# Altium footprint library con-neutrik_ag.PCBLIB: 78 footprints (part 4 of 5)
Each footprint in its own frame and in the unit in brackets; x right, y up, seen from the top. Pads: shape width x height; smd on the part's side, far side on the other; paste and mask are expansions set on the pad; w line width, h text height; cw(c..) or ccw(c..) is an arc to the next point about the centre after c.
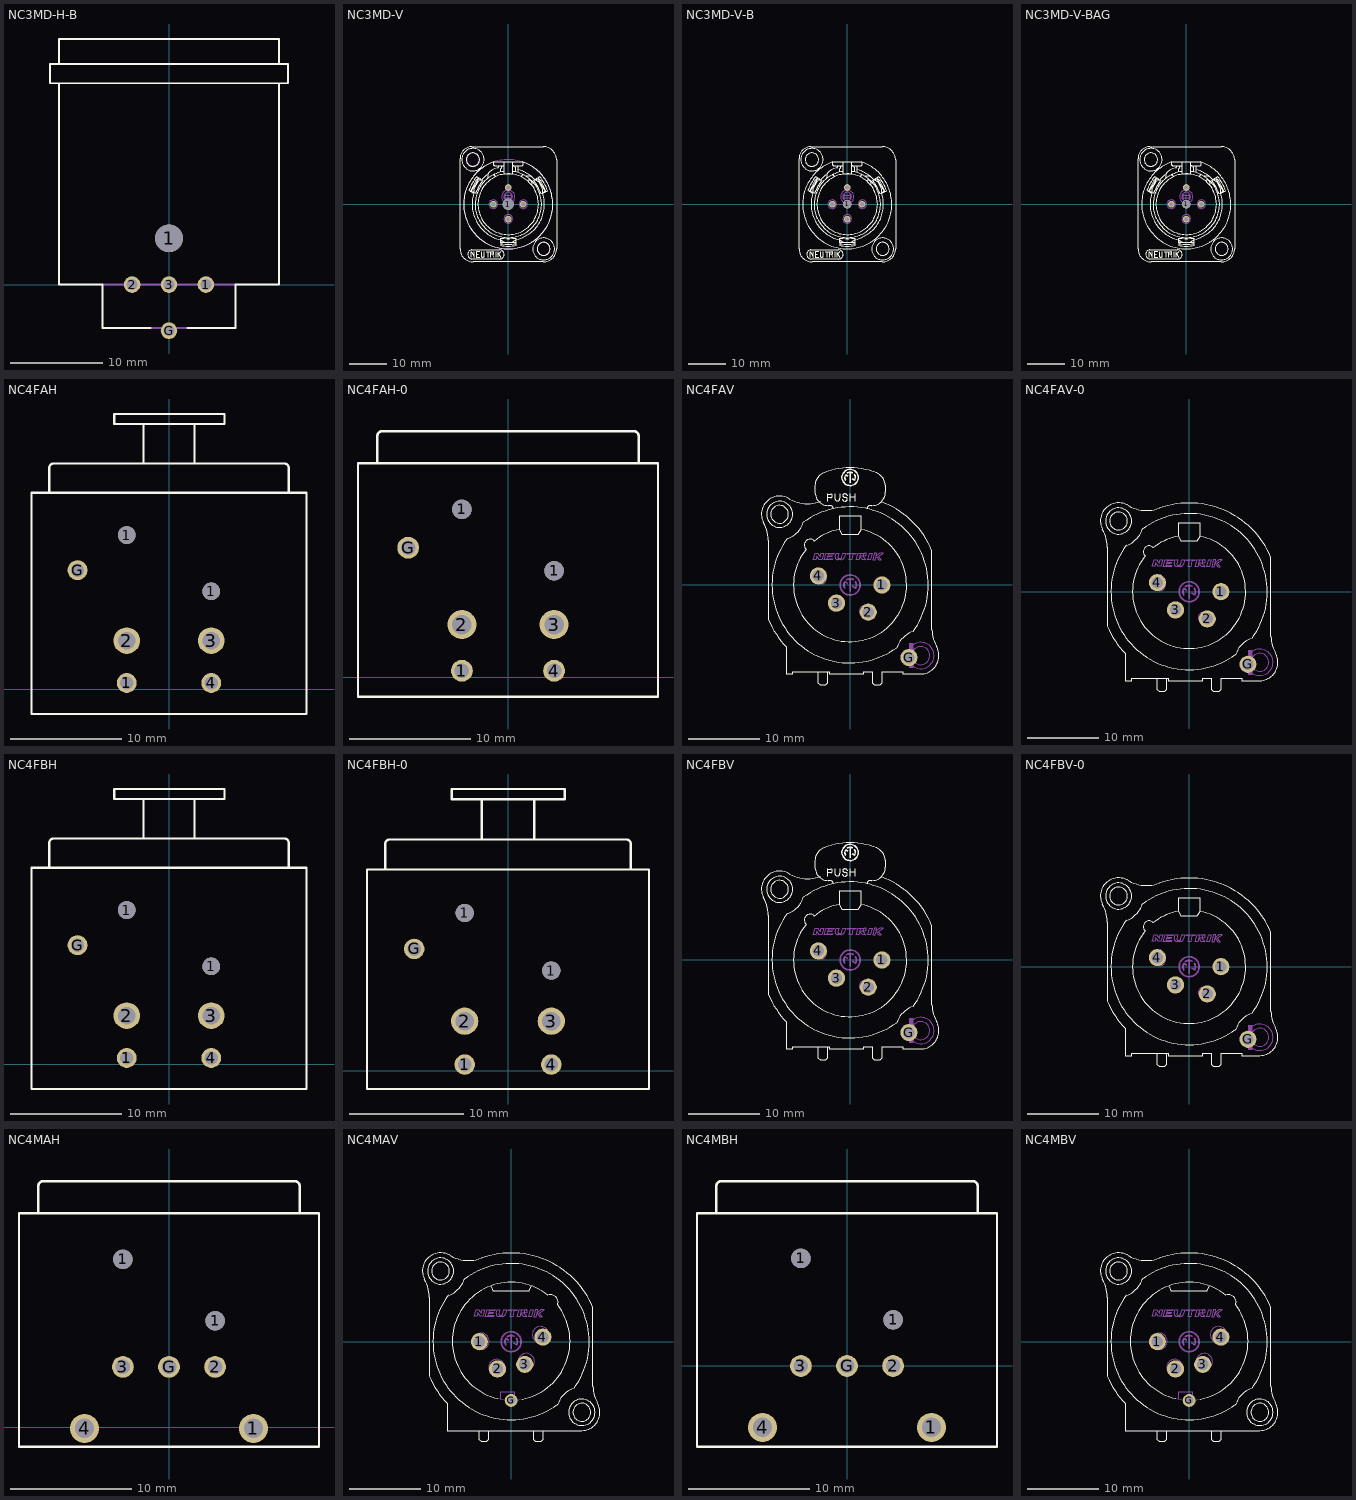
[diagram p3: the footprints below, top view; thin cyan lines are the x and y axes]

## NC3MD-H-B [mm]
pads (5):
  round 3 hole 3: 1(0,5)
  round 1.8 hole 1.2: 1(4,0) 2(-4,0) 3(0,0) G(0,-5)
Top Overlay:
  lines w0.203: -11.9,21.7 -11.9,0 -7.2,0 -7.2,-4.7 -2,-4.7 ; -11.9,24 -11.9,26.6 11.9,26.6 11.9,24 ; 2,-4.7 7.2,-4.7 7.2,0 11.9,0 11.9,21.7 ; -12.9,21.8 12.9,21.8 12.9,23.9 -12.9,23.9 -12.9,21.8
Mechanical 16:
  lines w0.203: -7.2,-4.7 7.2,-4.7 ; -7.2,0 7.2,0

## NC3MD-V [mm]
pads (5):
  round 1.8 hole 1.2: 1(-4,0) 2(4,0) 3(0,-4) G(0,4.5)
  round 3 hole 3: 1(0,0)
Top Overlay:
  circle w0.102: c0,0 r8.14
  circle w0.102: c-9.475,11.995 r3.003
  circle w0.102: c-9.475,11.995 r1.789
  circle w0.102: c9.526,-11.995 r2.948
  circle w0.102: c9.526,-11.995 r1.739
  lines w0.102: -12.953,9.979 -12.953,10.181 ; -10.187,3.552 cw(c2.717,-1.637) -8.109,7.095 ; -9.979,-14.238 -9.979,-12.751 -9.072,-14.213 -9.072,-12.751 ; -9.262,3.038 -9.295,4.226 -8.236,6.03 -7.252,6.563 ; -9.248,2.974 ccw(c0.082,0.011) -2.016,-9.551 ; -9.235,2.934 -10.582,3.725 cw(c-0.161,0.05) -8.453,7.355 -7.127,6.577 ; -8.518,-13.457 -7.988,-13.457 ; -7.711,-14.213 -8.568,-14.213 -8.568,-12.751 -7.711,-12.751 ; -7.308,-12.751 -7.308,-13.86 ccw(c-6.857,-13.749) -6.401,-13.835 -6.401,-12.726 ; -7.132,6.552 cw(c-1.797,2.186) -5.519,7.988 ; -5.897,-12.751 -4.99,-12.751 ; -5.569,7.006 cw(c13.136,6.655) -5.544,7.686 cw(c-4.272,7.616) -5.242,8.442 cw(c-2.624,6.211) -3.629,9.5 -2.722,9.777 ; -5.443,-14.213 -5.443,-12.776 ; -4.738,-14.213 -4.738,-12.751 -4.183,-12.751 cw(c-4.205,-13.104) -4.209,-13.457 -4.309,-13.457 ; -4.687,-13.457 -4.309,-13.457 ; -3.982,11.315 -3.982,10.76 ccw(c-3.604,10.761) -3.603,10.383 -1.21,10.383 ; -3.956,7.913 cw(c-3.993,7.399) -3.478,7.409 ; -3.856,-14.213 -4.309,-13.457 ; -3.83,11.365 ccw(c0,0.013) 3.83,11.365 -3.805,11.365 ; -3.377,-14.213 -3.377,-12.751 ; -2.873,-14.238 -2.873,-12.751 ; -2.822,-13.633 -1.991,-12.751 ; -2.747,9.803 ccw(c-2.747,9.929) -2.621,9.929 -2.621,10.307 ; -2.545,-13.381 -1.991,-14.213 ; -2.066,-9.5 -2.066,-11.038 ccw(c0.038,-0.189) 2.142,-11.038 2.142,-9.475 ; -2.016,-10.609 ccw(c0.038,3.146) 2.092,-10.609 ; -1.991,-9.601 -1.033,-10.181 1.058,-10.181 2.066,-9.551 ; -1.94,8.719 -1.94,9.601 cw(c-1.26,9.601) -1.26,10.282 ; -1.235,8.795 ccw(c0.038,-0.037) 1.31,8.795 ; -1.21,11.315 -1.21,8.266 ccw(c-1.084,8.266) -1.084,8.14 1.134,8.14 ccw(c1.134,8.266) 1.26,8.266 1.26,11.315 ; 1.26,10.383 3.704,10.383 ccw(c3.704,10.71) 4.032,10.71 4.032,11.239 ; 1.361,10.307 cw(c1.361,9.651) 2.016,9.651 2.016,8.694 ; 2.167,-9.475 ccw(c0.048,-0.013) 9.274,2.974 ; 2.671,8.543 2.671,10.332 ; 2.722,9.299 cw(c0.201,0.268) 7.182,6.527 ; 3.528,7.358 cw(c4.077,7.392) 4.007,7.938 ; 4.838,7.56 cw(c5.148,5.141) 7.081,6.628 ; 5.191,6.3 cw(c5.639,5.654) 6.275,5.191 ; 7.136,6.555 8.492,7.332 cw(c0.123,0.114) 10.583,3.68 9.249,2.916 ; 7.239,6.527 8.286,5.965 9.326,4.15 9.299,3.031 ; 8.145,7.075 cw(c-2.77,-1.543) 10.186,3.511 ; -12.953,10.181 -12.953,12.247 cw(c-9.752,12.247) -9.752,15.448 9.45,15.448 cw(c9.45,11.894) 13.003,11.894 13.003,-11.92 cw(c9.45,-11.92) 9.45,-15.473 -9.45,-15.473 cw(c-9.45,-11.97) -12.953,-11.97 -12.953,10.181 ; -9.941,3.524 -8.876,2.899 cw(c14.376,-8.464) -6.886,6.29 -7.951,6.915 -9.941,3.524 ; -9.752,-14.717 -2.319,-14.717 ccw(c-2.319,-13.482) -2.319,-12.247 -9.752,-12.247 ccw(c-9.619,-13.482) -9.752,-14.717 ; -1.94,-10.383 1.991,-10.383 1.991,-9.148 cw(c0.025,16.658) -1.94,-9.148 -1.94,-10.383 ; 6.927,6.261 7.998,6.875 9.952,3.463 8.88,2.85 ccw(c-14.49,-8.27) 6.927,6.261
Mechanical 14:
  circle w0.102: c-9.5,12 r1.7
  circle w0.102: c9.5,-12 r1.7
  circle w0.102: c0,0 r12
Mechanical 16:
  circle w0.102: c0,2.016 r1.789
  circle w0.102: c0,2.016 r1.21
  circle w0.102: c4.082,0 r1.159
  circle w0.102: c-4.032,0 r1.16
  circle w0.102: c0,-3.931 r1.16
  lines w0.102: -0.58,1.613 0.605,1.613 ccw(c0.605,2.016) 0.605,2.419 0,2.419 cw(c-0.277,6.852) -0.554,2.419 ccw(c-0.58,2.016) -0.58,1.613

## NC3MD-V-B [mm]
pads (5):
  round 1.8 hole 1.2: 1(-4,0) 2(4,0) 3(0,-4) G(0,4.5)
  round 2.3 hole 2.3: 1(0,0)
Top Overlay:
  circle w0.102: c0,0 r8.14
  circle w0.102: c-9.475,11.995 r3.003
  circle w0.102: c-9.475,11.995 r1.789
  circle w0.102: c9.526,-11.995 r2.948
  circle w0.102: c9.526,-11.995 r1.739
  lines w0.102: -12.953,9.979 -12.953,10.181 ; -10.187,3.552 cw(c2.717,-1.637) -8.109,7.095 ; -9.979,-14.238 -9.979,-12.751 -9.072,-14.213 -9.072,-12.751 ; -9.262,3.038 -9.295,4.226 -8.236,6.03 -7.252,6.563 ; -9.248,2.974 ccw(c0.082,0.011) -2.016,-9.551 ; -9.235,2.934 -10.582,3.725 cw(c-0.161,0.05) -8.453,7.355 -7.127,6.577 ; -8.518,-13.457 -7.988,-13.457 ; -7.711,-14.213 -8.568,-14.213 -8.568,-12.751 -7.711,-12.751 ; -7.308,-12.751 -7.308,-13.86 ccw(c-6.857,-13.75) -6.401,-13.835 -6.401,-12.726 ; -7.132,6.552 cw(c-1.797,2.186) -5.519,7.988 ; -5.897,-12.751 -4.99,-12.751 ; -5.569,7.006 cw(c13.136,6.655) -5.544,7.686 cw(c-4.272,7.616) -5.242,8.442 cw(c-2.624,6.211) -3.629,9.5 -2.722,9.777 ; -5.443,-14.213 -5.443,-12.776 ; -4.738,-14.213 -4.738,-12.751 -4.183,-12.751 cw(c-4.205,-13.104) -4.209,-13.457 -4.309,-13.457 ; -4.687,-13.457 -4.309,-13.457 ; -3.982,11.315 -3.982,10.76 ccw(c-3.604,10.761) -3.603,10.383 -1.21,10.383 ; -3.956,7.913 cw(c-3.993,7.399) -3.478,7.409 ; -3.856,-14.213 -4.309,-13.457 ; -3.83,11.365 ccw(c0,0.013) 3.83,11.365 -3.805,11.365 ; -3.377,-14.213 -3.377,-12.751 ; -2.873,-14.238 -2.873,-12.751 ; -2.822,-13.633 -1.991,-12.751 ; -2.747,9.803 ccw(c-2.747,9.929) -2.621,9.929 -2.621,10.307 ; -2.545,-13.381 -1.991,-14.213 ; -2.066,-9.5 -2.066,-11.038 ccw(c0.038,-0.189) 2.142,-11.038 2.142,-9.475 ; -2.016,-10.609 ccw(c0.038,3.146) 2.092,-10.609 ; -1.991,-9.601 -1.033,-10.181 1.058,-10.181 2.066,-9.551 ; -1.94,8.719 -1.94,9.601 cw(c-1.26,9.601) -1.26,10.282 ; -1.235,8.795 ccw(c0.038,-0.037) 1.31,8.795 ; -1.21,11.315 -1.21,8.266 ccw(c-1.084,8.266) -1.084,8.14 1.134,8.14 ccw(c1.134,8.266) 1.26,8.266 1.26,11.315 ; 1.26,10.383 3.704,10.383 ccw(c3.704,10.71) 4.032,10.71 4.032,11.239 ; 1.361,10.307 cw(c1.361,9.651) 2.016,9.651 2.016,8.694 ; 2.167,-9.475 ccw(c0.048,-0.013) 9.274,2.974 ; 2.671,8.543 2.671,10.332 ; 2.722,9.299 cw(c0.201,0.268) 7.182,6.527 ; 3.528,7.358 cw(c4.077,7.392) 4.007,7.938 ; 4.838,7.56 cw(c5.148,5.141) 7.081,6.628 ; 5.191,6.3 cw(c5.639,5.654) 6.275,5.191 ; 7.136,6.555 8.492,7.332 cw(c0.123,0.114) 10.583,3.68 9.249,2.916 ; 7.239,6.527 8.286,5.965 9.326,4.15 9.299,3.031 ; 8.145,7.075 cw(c-2.77,-1.543) 10.186,3.511 ; -12.953,10.181 -12.953,12.247 cw(c-9.752,12.247) -9.752,15.448 9.45,15.448 cw(c9.45,11.894) 13.003,11.894 13.003,-11.92 cw(c9.45,-11.92) 9.45,-15.473 -9.45,-15.473 cw(c-9.45,-11.97) -12.953,-11.97 -12.953,10.181 ; -9.941,3.524 -8.876,2.899 cw(c14.376,-8.464) -6.886,6.29 -7.951,6.915 -9.941,3.524 ; -9.752,-14.717 -2.319,-14.717 ccw(c-2.319,-13.482) -2.319,-12.247 -9.752,-12.247 ccw(c-9.619,-13.482) -9.752,-14.717 ; -1.94,-10.383 1.991,-10.383 1.991,-9.148 cw(c0.025,16.658) -1.94,-9.148 -1.94,-10.383 ; 6.927,6.261 7.998,6.875 9.952,3.463 8.88,2.85 ccw(c-14.49,-8.27) 6.927,6.261
Mechanical 16:
  circle w0.102: c0,2.016 r1.789
  circle w0.102: c0,2.016 r1.21
  circle w0.102: c4.082,0 r1.159
  circle w0.102: c-4.032,0 r1.16
  circle w0.102: c0,-3.931 r1.16
  lines w0.102: -0.58,1.613 0.605,1.613 ccw(c0.605,2.016) 0.605,2.419 0,2.419 cw(c-0.277,6.852) -0.554,2.419 ccw(c-0.58,2.016) -0.58,1.613

## NC3MD-V-BAG [mm]
pads (5):
  round 1.8 hole 1.2: 1(-4,0) 2(4,0) 3(0,-4) G(0,4.5)
  round 2.3 hole 2.3: 1(0,0)
Top Overlay:
  circle w0.102: c0,0 r8.14
  circle w0.102: c-9.475,11.995 r3.003
  circle w0.102: c-9.475,11.995 r1.789
  circle w0.102: c9.526,-11.995 r2.948
  circle w0.102: c9.526,-11.995 r1.739
  lines w0.102: -12.953,9.979 -12.953,10.181 ; -10.187,3.552 cw(c2.717,-1.637) -8.109,7.095 ; -9.979,-14.238 -9.979,-12.751 -9.072,-14.213 -9.072,-12.751 ; -9.262,3.038 -9.295,4.226 -8.236,6.03 -7.252,6.563 ; -9.248,2.974 ccw(c0.082,0.011) -2.016,-9.551 ; -9.235,2.934 -10.582,3.725 cw(c-0.161,0.05) -8.453,7.355 -7.127,6.577 ; -8.518,-13.457 -7.988,-13.457 ; -7.711,-14.213 -8.568,-14.213 -8.568,-12.751 -7.711,-12.751 ; -7.308,-12.751 -7.308,-13.86 ccw(c-6.857,-13.75) -6.401,-13.835 -6.401,-12.726 ; -7.132,6.552 cw(c-1.797,2.186) -5.519,7.988 ; -5.897,-12.751 -4.99,-12.751 ; -5.569,7.006 cw(c13.136,6.655) -5.544,7.686 cw(c-4.272,7.616) -5.242,8.442 cw(c-2.624,6.211) -3.629,9.5 -2.722,9.777 ; -5.443,-14.213 -5.443,-12.776 ; -4.738,-14.213 -4.738,-12.751 -4.183,-12.751 cw(c-4.205,-13.104) -4.209,-13.457 -4.309,-13.457 ; -4.687,-13.457 -4.309,-13.457 ; -3.982,11.315 -3.982,10.76 ccw(c-3.604,10.761) -3.603,10.383 -1.21,10.383 ; -3.956,7.913 cw(c-3.993,7.399) -3.478,7.409 ; -3.856,-14.213 -4.309,-13.457 ; -3.83,11.365 ccw(c0,0.013) 3.83,11.365 -3.805,11.365 ; -3.377,-14.213 -3.377,-12.751 ; -2.873,-14.238 -2.873,-12.751 ; -2.822,-13.633 -1.991,-12.751 ; -2.747,9.803 ccw(c-2.747,9.929) -2.621,9.929 -2.621,10.307 ; -2.545,-13.381 -1.991,-14.213 ; -2.066,-9.5 -2.066,-11.038 ccw(c0.038,-0.189) 2.142,-11.038 2.142,-9.475 ; -2.016,-10.609 ccw(c0.038,3.146) 2.092,-10.609 ; -1.991,-9.601 -1.033,-10.181 1.058,-10.181 2.066,-9.551 ; -1.94,8.719 -1.94,9.601 cw(c-1.26,9.601) -1.26,10.282 ; -1.235,8.795 ccw(c0.038,-0.037) 1.31,8.795 ; -1.21,11.315 -1.21,8.266 ccw(c-1.084,8.266) -1.084,8.14 1.134,8.14 ccw(c1.134,8.266) 1.26,8.266 1.26,11.315 ; 1.26,10.383 3.704,10.383 ccw(c3.704,10.71) 4.032,10.71 4.032,11.239 ; 1.361,10.307 cw(c1.361,9.651) 2.016,9.651 2.016,8.694 ; 2.167,-9.475 ccw(c0.048,-0.013) 9.274,2.974 ; 2.671,8.543 2.671,10.332 ; 2.722,9.299 cw(c0.201,0.268) 7.182,6.527 ; 3.528,7.358 cw(c4.077,7.392) 4.007,7.938 ; 4.838,7.56 cw(c5.148,5.141) 7.081,6.628 ; 5.191,6.3 cw(c5.639,5.654) 6.275,5.191 ; 7.136,6.555 8.492,7.332 cw(c0.123,0.114) 10.583,3.68 9.249,2.916 ; 7.239,6.527 8.286,5.965 9.326,4.15 9.299,3.031 ; 8.145,7.075 cw(c-2.77,-1.543) 10.186,3.511 ; -12.953,10.181 -12.953,12.247 cw(c-9.752,12.247) -9.752,15.448 9.45,15.448 cw(c9.45,11.894) 13.003,11.894 13.003,-11.92 cw(c9.45,-11.92) 9.45,-15.473 -9.45,-15.473 cw(c-9.45,-11.97) -12.953,-11.97 -12.953,10.181 ; -9.941,3.524 -8.876,2.899 cw(c14.376,-8.464) -6.886,6.29 -7.951,6.915 -9.941,3.524 ; -9.752,-14.717 -2.319,-14.717 ccw(c-2.319,-13.482) -2.319,-12.247 -9.752,-12.247 ccw(c-9.619,-13.482) -9.752,-14.717 ; -1.94,-10.383 1.991,-10.383 1.991,-9.148 cw(c0.025,16.658) -1.94,-9.148 -1.94,-10.383 ; 6.927,6.261 7.998,6.875 9.952,3.463 8.88,2.85 ccw(c-14.49,-8.27) 6.927,6.261
Mechanical 16:
  circle w0.102: c0,2.016 r1.789
  circle w0.102: c0,2.016 r1.21
  circle w0.102: c4.082,0 r1.159
  circle w0.102: c-4.032,0 r1.16
  circle w0.102: c0,-3.931 r1.16
  lines w0.102: -0.58,1.613 0.605,1.613 ccw(c0.605,2.016) 0.605,2.419 0,2.419 cw(c-0.277,6.852) -0.554,2.419 ccw(c-0.58,2.016) -0.58,1.613

## NC4FAH [mm]
pads (7):
  round 1.8 hole 1.2: 1(-3.81,0.55) 4(3.81,0.55) G(-8.25,10.72)
  round 1.6 hole 1.6: 1(-3.81,13.89) 1(3.81,8.81)
  round 2.4 hole 1.6: 2(-3.81,4.365) 3(3.81,4.365)
Top Overlay:
  lines w0.203: -10.8,17.797 -10.8,19.947 cw(c-10.4,19.947) -10.4,20.347 10.4,20.347 cw(c10.4,19.947) 10.8,19.947 10.8,17.797 ; -2.3,20.458 -2.3,23.909 ; 2.25,23.909 -2.3,23.909 ; 2.3,20.458 2.3,23.909 5,23.909 5,24.808 -4.95,24.808 -4.95,23.909 -2.3,23.909 ; -12.4,-2.253 -12.4,17.697 12.4,17.697 12.4,-2.253 -12.4,-2.253

## NC4FAH-0 [mm]
pads (7):
  round 1.8 hole 1.2: 1(-3.81,0.55) 4(3.81,0.55) G(-8.25,10.72)
  round 1.6 hole 1.6: 1(-3.81,13.89) 1(3.81,8.81)
  round 2.4 hole 1.6: 2(-3.81,4.365) 3(3.81,4.365)
Top Overlay:
  lines w0.203: -10.8,17.8 -10.8,19.95 cw(c-10.4,19.95) -10.4,20.35 10.4,20.35 cw(c10.4,19.95) 10.8,19.95 10.8,17.8 ; -12.4,-1.6 -12.4,17.7 12.4,17.7 12.4,-1.6 -12.4,-1.6

## NC4FAV [mil]
pads (5):
  round 94.48 hole 62.99: 1(175.2,0) 2(100,-150) 3(-75,-100) 4(-175.2,50) G(323.82,-400)
Top Overlay:
  circle w4: c-388.94,389.5 r72.04
  circle w4: c-388.94,389.5 r49.17
  circle w7.87: c0,592.72 r45.09
  rectangle: -126.77,460.63 -121.26,503.94
  rectangle: -86.81,474.8 -81.3,504.13
  rectangle: -58.86,475.59 -53.35,504.13
  rectangle: -3.54,460.83 1.97,503.94
  rectangle: 24.41,460.83 29.92,504.13
  rectangle: 1.38,481.3 25.2,486.42
  rectangle: -18.5,491.54 -12.8,493.9
  rectangle: -45.28,473.43 -39.76,475.39
  lines w4: -177.17,-480.32 -177.17,-537.4 -165.35,-549.21 -133.86,-549.21 -122.05,-537.4 -122.05,-480.32 ; -163.39,460.63 cw(c-235.17,650.95) -332.68,472.44 ccw(c-388.57,389.17) -478.35,344.49 cw(c-647.33,244.1) -450.79,246.06 -450.79,-190.94 ccw(c32.7,19.97) -352.36,-340.55 -352.36,-490.16 -314.96,-490.16 -314.96,-478.35 -114.17,-478.35 -114.17,-490.16 74.8,-490.16 74.8,-478.35 122.05,-478.35 122.05,-537.4 133.86,-549.21 165.35,-549.21 177.17,-537.4 177.17,-478.35 289.37,-478.35 289.37,-490.16 389.76,-490.16 ccw(c385.94,-382.8) 435.04,-478.35 ccw(c388.3,-388.3) 474.41,-334.65 cw(c630.04,-245.71) 450.79,-246.06 450.79,188.98 ccw(c13.82,13.68) 173.23,456.69 ; -92.52,420.08 ccw(c-109.49,420.08) -108.27,437.01 -120.47,437.4 cw(c-118.03,513.56) -194.09,509.06 cw(c199.57,532.43) -194.49,547.64 cw(c-116.37,545.23) -141.34,619.29 cw(c2.21,241.98) 0,645.67 cw(c-0.99,244.01) 147.24,617.32 cw(c116.8,545.74) 194.49,549.61 194.49,511.81 cw(c119.28,512.61) 120.08,437.4 ccw(c114.17,-129.03) 108.27,437.4 ccw(c110.55,419.07) 92.13,420.47 ; -61.02,305.12 -47.24,279.53 45.28,279.53 61.02,305.12 ; -61.02,305.12 -61.02,377.95 61.02,377.95 61.02,305.12 ; -61.02,305.12 ccw(c-13.83,25.42) -196.85,242.13 ccw(c-220.47,220.47) -242.13,196.85 ccw(c-0.73,-0.53) 61.02,305.12 ; -346.46,255.91 ccw(c-387.34,385.39) -257.87,344.49 cw(c0.1,-0.19) 346.46,-255.91 ccw(c396.96,-398.1) 255.91,-344.49 cw(c-1.02,0.11) -346.46,255.91
  lines w5.12: -123.23,501.38 -107.48,501.38 cw(c-107.48,491.24) -107.09,481.1 -122.44,481.1
  lines w5.51: -84.06,477.56 ccw(c-68.67,477.62) -74.02,463.19 ccw(c-69.22,502.58) -66.54,462.99 ccw(c-70.17,476.62) -56.1,477.56 ; -42.52,472.83 -42.32,471.85 ccw(c-32.47,473.82) -37.2,464.96 ccw(c-27.33,483.47) -30.91,462.8 ccw(c-27.95,479.82) -25,462.8 ccw(c-31.57,501.03) -21.46,463.58 ccw(c-23.74,471.92) -16.54,467.13 ccw(c-26.8,474) -15.16,469.88 ccw(c-23.66,472.88) -15.35,476.38 ccw(c-22.77,473.26) -20.28,480.91 ccw(c-49.88,390.31) -26.38,482.68 cw(c22.35,674.12) -32.87,484.45 cw(c-27.54,502.81) -38.58,487.2 cw(c-35.6,491.41) -40.75,491.14 cw(c-13.85,492.52) -40.75,493.9 cw(c-32.9,493.49) -39.17,498.23 cw(c-32.82,493.44) -34.65,501.18 cw(c-27.72,471.82) -28.74,501.97 cw(c-27.98,479.69) -22.83,501.38 cw(c-24.59,494) -18.9,499.02 cw(c-37.29,482.78) -16.54,495.87 cw(c-31.76,486.24) -15.75,494.49
  lines w7.87: -23.62,576.38 cw(c0.21,592.84) -25,607.09 -12.4,599.61 ; -16.54,616.73 cw(c-0.07,590.84) 14.37,617.91 ; 0,564.57 0,619.29 ; 12.6,585.63 24.61,578.35 ccw(c-0.22,592.92) 23.62,609.06
Mechanical 16:
  circle w4: c389.55,-389.14 r72.67
  circle w4: c389.55,-389.14 r49.43
  circle w9.84: c0,0 r55.12
  circle w4: c-161.02,37.01 r31.1
  circle w4: c164.96,0 r31.1
  circle w4: c80.32,-144.49 r31.12
  circle w4: c-83.46,-111.42 r31.1
  rectangle: 324.91,-458.01 348.57,-320.27
  rectangle: -190.94,27.17 -131.89,46.85
  rectangle: 134.65,-9.84 194.88,9.84
  rectangle: 49.85,-154.85 110.08,-135.16
  rectangle: -113.39,-121.26 -53.54,-101.57
  lines w2.5: 57.09,172.24 54.13,160.43 67.91,160.43 ccw(c68.07,168.14) 74.8,164.37 75.79,167.32 ccw(c72.34,168.79) 73.82,172.24 58.07,172.24 ; -202.76,138.98 -192.91,175.98 -178.74,175.98 -164.57,155.51 -159.06,175.98 -145.28,175.98 -155.12,138.98 -169.29,138.98 -183.07,159.06 -188.98,138.98 -202.76,138.98 ; -142.72,138.78 -132.87,176.18 -88.58,176.18 -90.55,169.29 -121.06,169.29 -123.03,161.42 -99.41,161.42 -101.38,154.53 -125,154.53 -127.95,145.67 -96.46,145.67 -98.43,138.78 -142.72,138.78 ; -81.69,155.51 ccw(c-66.83,153.75) -66.93,138.78 -48.23,138.78 ccw(c-50.39,158.45) -31.5,152.56 -24.61,176.18 -39.37,176.18 -46.26,151.57 cw(c-53.28,154.12) -53.15,146.65 -62.01,146.65 cw(c-61.38,153.27) -67.91,154.53 -62.01,176.18 -75.79,176.18 -81.69,155.51 ; -14.76,169.29 1.97,169.29 -5.91,138.78 7.87,138.78 15.75,169.29 30.51,169.29 32.48,176.18 -12.8,176.18 -14.76,169.29 ; 34.45,138.78 44.29,176.18 81.69,176.18 cw(c82.72,169.41) 89.57,169.29 cw(c80.22,169.13) 83.66,160.43 72.83,155.51 86.61,138.78 68.9,138.78 53.15,156.5 48.23,138.78 34.45,138.78 ; 97.44,138.78 111.22,138.78 121.06,176.18 107.28,176.18 97.44,138.78 ; 124.02,138.78 133.86,176.18 147.64,176.18 143.7,160.43 164.37,176.18 181.1,176.18 155.51,156.5 171.26,138.78 158.46,138.78 142.72,156.5 137.8,138.78 124.02,138.78
  lines w9.84: -29.53,-17.72 cw(c0.92,0) -29.53,17.72 -15.35,9.06 ; -19.29,28.74 cw(c0.22,-2.62) 16.93,30.32 ; 0.39,-34.65 0.39,30.71 ; 14.96,-8.27 29.53,-16.93 ccw(c0.01,0.7) 30.32,16.93

## NC4FAV-0 [mil]
pads (5):
  round 94.48 hole 62.99: 1(175.2,0) 2(100,-150) 3(-75,-100) 4(-175.2,50) G(323.82,-400)
Top Overlay:
  circle w4: c-388.94,389.5 r72.04
  circle w4: c-388.94,389.5 r49.17
  lines w4: -177.17,-480.32 -177.17,-537.4 -165.35,-549.21 -133.86,-549.21 -122.05,-537.4 -122.05,-480.32 ; -61.02,305.12 -47.24,279.53 45.28,279.53 61.02,305.12 ; -61.02,305.12 -61.02,377.95 61.02,377.95 61.02,305.12 ; -61.02,305.12 ccw(c-13.83,25.42) -196.85,242.13 ccw(c-220.47,220.47) -242.13,196.85 ccw(c-0.73,-0.53) 61.02,305.12 ; -478.35,344.49 cw(c-388.57,389.17) -332.68,472.44 ccw(c-235.17,650.97) -163.39,460.63 cw(c-0.12,-0.36) 450.79,188.98 450.79,-246.06 ccw(c630.04,-245.71) 474.41,-334.65 cw(c388.3,-388.3) 435.04,-478.35 cw(c385.94,-382.8) 389.76,-490.16 289.37,-490.16 289.37,-478.35 177.17,-478.35 177.17,-537.4 165.35,-549.21 133.86,-549.21 122.05,-537.4 122.05,-478.35 74.8,-478.35 74.8,-490.16 -114.17,-490.16 -114.17,-478.35 -314.96,-478.35 -314.96,-490.16 -352.36,-490.16 -352.36,-340.55 cw(c32.7,19.97) -450.79,-190.94 -450.79,246.06 ccw(c-647.33,244.1) -478.35,344.49 ; -346.46,255.91 ccw(c-387.34,385.39) -257.87,344.49 cw(c0.1,-0.19) 346.46,-255.91 ccw(c396.96,-398.11) 255.91,-344.49 cw(c-1.01,0.12) -346.46,255.91
Mechanical 16:
  circle w4: c389.55,-389.14 r72.67
  circle w4: c389.55,-389.14 r49.43
  circle w9.84: c0,0 r55.12
  circle w4: c-161.02,37.01 r31.1
  circle w4: c164.96,0 r31.1
  circle w4: c80.32,-144.49 r31.12
  circle w4: c-83.46,-111.42 r31.1
  rectangle: 324.91,-458.01 348.57,-320.27
  rectangle: -190.94,27.17 -131.89,46.85
  rectangle: 134.65,-9.84 194.88,9.84
  rectangle: 49.85,-154.85 110.08,-135.16
  rectangle: -113.39,-121.26 -53.54,-101.57
  lines w2.5: 57.09,172.24 54.13,160.43 67.91,160.43 ccw(c68.07,168.14) 74.8,164.37 75.79,167.32 ccw(c72.34,168.79) 73.82,172.24 58.07,172.24 ; -202.76,138.98 -192.91,175.98 -178.74,175.98 -164.57,155.51 -159.06,175.98 -145.28,175.98 -155.12,138.98 -169.29,138.98 -183.07,159.06 -188.98,138.98 -202.76,138.98 ; -142.72,138.78 -132.87,176.18 -88.58,176.18 -90.55,169.29 -121.06,169.29 -123.03,161.42 -99.41,161.42 -101.38,154.53 -125,154.53 -127.95,145.67 -96.46,145.67 -98.43,138.78 -142.72,138.78 ; -81.69,155.51 ccw(c-66.83,153.75) -66.93,138.78 -48.23,138.78 ccw(c-50.39,158.45) -31.5,152.56 -24.61,176.18 -39.37,176.18 -46.26,151.57 cw(c-53.28,154.12) -53.15,146.65 -62.01,146.65 cw(c-61.38,153.27) -67.91,154.53 -62.01,176.18 -75.79,176.18 -81.69,155.51 ; -14.76,169.29 1.97,169.29 -5.91,138.78 7.87,138.78 15.75,169.29 30.51,169.29 32.48,176.18 -12.8,176.18 -14.76,169.29 ; 34.45,138.78 44.29,176.18 81.69,176.18 cw(c82.72,169.41) 89.57,169.29 cw(c80.22,169.13) 83.66,160.43 72.83,155.51 86.61,138.78 68.9,138.78 53.15,156.5 48.23,138.78 34.45,138.78 ; 97.44,138.78 111.22,138.78 121.06,176.18 107.28,176.18 97.44,138.78 ; 124.02,138.78 133.86,176.18 147.64,176.18 143.7,160.43 164.37,176.18 181.1,176.18 155.51,156.5 171.26,138.78 158.46,138.78 142.72,156.5 137.8,138.78 124.02,138.78
  lines w9.84: -29.53,-17.72 cw(c0.92,0) -29.53,17.72 -15.35,9.06 ; -19.29,28.74 cw(c0.22,-2.59) 16.93,30.32 ; 0.39,-34.65 0.39,30.71 ; 14.96,-8.27 29.53,-16.93 ccw(c0.01,0.7) 30.32,16.93

## NC4FBH [mm]
pads (7):
  round 1.8 hole 1.2: 1(-3.81,0.55) 4(3.81,0.55) G(-8.25,10.72)
  round 1.6 hole 1.6: 1(-3.81,13.89) 1(3.81,8.81)
  round 2.4 hole 1.6: 2(-3.81,4.365) 3(3.81,4.365)
Top Overlay:
  lines w0.203: -10.8,17.797 -10.8,19.947 cw(c-10.4,19.947) -10.4,20.347 10.4,20.347 cw(c10.4,19.947) 10.8,19.947 10.8,17.797 ; -2.3,20.458 -2.3,23.909 ; 2.25,23.909 -2.3,23.909 ; 2.3,20.458 2.3,23.909 5,23.909 5,24.808 -4.95,24.808 -4.95,23.909 -2.3,23.909 ; -12.4,-2.253 -12.4,17.697 12.4,17.697 12.4,-2.253 -12.4,-2.253

## NC4FBH-0 [mm]
pads (7):
  round 1.8 hole 1.2: 1(-3.81,0.55) 4(3.81,0.55) G(-8.25,10.72)
  round 1.6 hole 1.6: 1(-3.81,13.89) 1(3.81,8.81)
  round 2.4 hole 1.6: 2(-3.81,4.365) 3(3.81,4.365)
Top Overlay:
  lines w0.203: -10.8,17.8 -10.8,19.95 cw(c-10.4,19.95) -10.4,20.35 10.4,20.35 cw(c10.4,19.95) 10.8,19.95 10.8,17.8 ; -2.3,20.438 -2.3,23.888 ; 2.25,23.888 -2.3,23.888 ; 2.3,20.438 2.3,23.888 5,23.888 5,24.788 -4.95,24.788 -4.95,23.888 -2.3,23.888 ; -12.4,-1.6 -12.4,17.7 12.4,17.7 12.4,-1.6 -12.4,-1.6

## NC4FBV [mil]
pads (5):
  round 94.48 hole 62.99: 1(175.2,0) 2(100,-150) 3(-75,-100) 4(-175.2,50) G(323.82,-400)
Top Overlay:
  circle w4: c-388.94,389.5 r72.04
  circle w4: c-388.94,389.5 r49.17
  circle w7.87: c0,592.72 r45.09
  rectangle: -126.77,460.63 -121.26,503.94
  rectangle: -86.81,474.8 -81.3,504.13
  rectangle: -58.86,475.59 -53.35,504.13
  rectangle: -3.54,460.83 1.97,503.94
  rectangle: 24.41,460.83 29.92,504.13
  rectangle: 1.38,481.3 25.2,486.42
  rectangle: -18.5,491.54 -12.8,493.9
  rectangle: -45.28,473.43 -39.76,475.39
  lines w4: -177.17,-480.32 -177.17,-537.4 -165.35,-549.21 -133.86,-549.21 -122.05,-537.4 -122.05,-480.32 ; -163.39,460.63 cw(c-235.17,650.95) -332.68,472.44 ccw(c-388.57,389.17) -478.35,344.49 cw(c-647.33,244.1) -450.79,246.06 -450.79,-190.94 ccw(c32.7,19.97) -352.36,-340.55 -352.36,-490.16 -314.96,-490.16 -314.96,-478.35 -114.17,-478.35 -114.17,-490.16 74.8,-490.16 74.8,-478.35 122.05,-478.35 122.05,-537.4 133.86,-549.21 165.35,-549.21 177.17,-537.4 177.17,-478.35 289.37,-478.35 289.37,-490.16 389.76,-490.16 ccw(c385.94,-382.8) 435.04,-478.35 ccw(c388.3,-388.3) 474.41,-334.65 cw(c630.04,-245.71) 450.79,-246.06 450.79,188.98 ccw(c13.82,13.68) 173.23,456.69 ; -92.52,420.08 ccw(c-109.49,420.08) -108.27,437.01 -120.47,437.4 cw(c-118.03,513.56) -194.09,509.06 cw(c199.57,532.43) -194.49,547.64 cw(c-116.37,545.23) -141.34,619.29 cw(c2.21,241.98) 0,645.67 cw(c-0.99,244.01) 147.24,617.32 cw(c116.8,545.74) 194.49,549.61 194.49,511.81 cw(c119.28,512.61) 120.08,437.4 ccw(c114.17,-129.03) 108.27,437.4 ccw(c110.55,419.07) 92.13,420.47 ; -61.02,305.12 -47.24,279.53 45.28,279.53 61.02,305.12 ; -61.02,305.12 -61.02,377.95 61.02,377.95 61.02,305.12 ; -61.02,305.12 ccw(c-13.83,25.42) -196.85,242.13 ccw(c-220.47,220.47) -242.13,196.85 ccw(c-0.73,-0.53) 61.02,305.12 ; -346.46,255.91 ccw(c-387.34,385.39) -257.87,344.49 cw(c0.1,-0.19) 346.46,-255.91 ccw(c396.96,-398.1) 255.91,-344.49 cw(c-1.02,0.11) -346.46,255.91
  lines w5.12: -123.23,501.38 -107.48,501.38 cw(c-107.48,491.24) -107.09,481.1 -122.44,481.1
  lines w5.51: -84.06,477.56 ccw(c-68.67,477.62) -74.02,463.19 ccw(c-69.22,502.58) -66.54,462.99 ccw(c-70.17,476.62) -56.1,477.56 ; -42.52,472.83 -42.32,471.85 ccw(c-32.47,473.82) -37.2,464.96 ccw(c-27.33,483.47) -30.91,462.8 ccw(c-27.95,479.82) -25,462.8 ccw(c-31.57,501.03) -21.46,463.58 ccw(c-23.74,471.92) -16.54,467.13 ccw(c-26.8,474) -15.16,469.88 ccw(c-23.66,472.88) -15.35,476.38 ccw(c-22.77,473.26) -20.28,480.91 ccw(c-49.88,390.31) -26.38,482.68 cw(c22.35,674.12) -32.87,484.45 cw(c-27.54,502.81) -38.58,487.2 cw(c-35.6,491.41) -40.75,491.14 cw(c-13.85,492.52) -40.75,493.9 cw(c-32.9,493.49) -39.17,498.23 cw(c-32.82,493.44) -34.65,501.18 cw(c-27.72,471.82) -28.74,501.97 cw(c-27.98,479.69) -22.83,501.38 cw(c-24.59,494) -18.9,499.02 cw(c-37.29,482.78) -16.54,495.87 cw(c-31.76,486.24) -15.75,494.49
  lines w7.87: -23.62,576.38 cw(c0.21,592.84) -25,607.09 -12.4,599.61 ; -16.54,616.73 cw(c-0.07,590.84) 14.37,617.91 ; 0,564.57 0,619.29 ; 12.6,585.63 24.61,578.35 ccw(c-0.22,592.92) 23.62,609.06
Mechanical 16:
  circle w4: c389.55,-389.14 r72.67
  circle w4: c389.55,-389.14 r49.43
  circle w9.84: c0,0 r55.12
  circle w4: c-161.02,37.01 r31.1
  circle w4: c164.96,0 r31.1
  circle w4: c80.32,-144.49 r31.12
  circle w4: c-83.46,-111.42 r31.1
  rectangle: 324.91,-458.01 348.57,-320.27
  rectangle: -190.94,27.17 -131.89,46.85
  rectangle: 134.65,-9.84 194.88,9.84
  rectangle: 49.85,-154.85 110.08,-135.16
  rectangle: -113.39,-121.26 -53.54,-101.57
  lines w2.5: 57.09,172.24 54.13,160.43 67.91,160.43 ccw(c68.07,168.14) 74.8,164.37 75.79,167.32 ccw(c72.34,168.79) 73.82,172.24 58.07,172.24 ; -202.76,138.98 -192.91,175.98 -178.74,175.98 -164.57,155.51 -159.06,175.98 -145.28,175.98 -155.12,138.98 -169.29,138.98 -183.07,159.06 -188.98,138.98 -202.76,138.98 ; -142.72,138.78 -132.87,176.18 -88.58,176.18 -90.55,169.29 -121.06,169.29 -123.03,161.42 -99.41,161.42 -101.38,154.53 -125,154.53 -127.95,145.67 -96.46,145.67 -98.43,138.78 -142.72,138.78 ; -81.69,155.51 ccw(c-66.83,153.75) -66.93,138.78 -48.23,138.78 ccw(c-50.39,158.44) -31.5,152.56 -24.61,176.18 -39.37,176.18 -46.26,151.57 cw(c-53.28,154.11) -53.15,146.65 -62.01,146.65 cw(c-61.38,153.27) -67.91,154.53 -62.01,176.18 -75.79,176.18 -81.69,155.51 ; -14.76,169.29 1.97,169.29 -5.91,138.78 7.87,138.78 15.75,169.29 30.51,169.29 32.48,176.18 -12.8,176.18 -14.76,169.29 ; 34.45,138.78 44.29,176.18 81.69,176.18 cw(c82.72,169.41) 89.57,169.29 cw(c80.22,169.13) 83.66,160.43 72.83,155.51 86.61,138.78 68.9,138.78 53.15,156.5 48.23,138.78 34.45,138.78 ; 97.44,138.78 111.22,138.78 121.06,176.18 107.28,176.18 97.44,138.78 ; 124.02,138.78 133.86,176.18 147.64,176.18 143.7,160.43 164.37,176.18 181.1,176.18 155.51,156.5 171.26,138.78 158.46,138.78 142.72,156.5 137.8,138.78 124.02,138.78
  lines w9.84: -29.53,-17.72 cw(c0.92,0) -29.53,17.72 -15.35,9.06 ; -19.29,28.74 cw(c0.22,-2.62) 16.93,30.32 ; 0.39,-34.65 0.39,30.71 ; 14.96,-8.27 29.53,-16.93 ccw(c0.01,0.7) 30.32,16.93

## NC4FBV-0 [mil]
pads (5):
  round 94.48 hole 62.99: 1(175.2,0) 2(100,-150) 3(-75,-100) 4(-175.2,50) G(323.82,-400)
Top Overlay:
  circle w4: c-388.94,389.5 r72.04
  circle w4: c-388.94,389.5 r49.17
  lines w4: -177.17,-480.32 -177.17,-537.4 -165.35,-549.21 -133.86,-549.21 -122.05,-537.4 -122.05,-480.32 ; -61.02,305.12 -47.24,279.53 45.28,279.53 61.02,305.12 ; -61.02,305.12 -61.02,377.95 61.02,377.95 61.02,305.12 ; -61.02,305.12 ccw(c-13.83,25.42) -196.85,242.13 ccw(c-220.47,220.47) -242.13,196.85 ccw(c-0.73,-0.53) 61.02,305.12 ; -478.35,344.49 cw(c-388.57,389.17) -332.68,472.44 ccw(c-235.17,650.95) -163.39,460.63 cw(c-0.12,-0.36) 450.79,188.98 450.79,-246.06 ccw(c630.04,-245.71) 474.41,-334.65 cw(c388.3,-388.3) 435.04,-478.35 cw(c385.94,-382.8) 389.76,-490.16 289.37,-490.16 289.37,-478.35 177.17,-478.35 177.17,-537.4 165.35,-549.21 133.86,-549.21 122.05,-537.4 122.05,-478.35 74.8,-478.35 74.8,-490.16 -114.17,-490.16 -114.17,-478.35 -314.96,-478.35 -314.96,-490.16 -352.36,-490.16 -352.36,-340.55 cw(c32.7,19.97) -450.79,-190.94 -450.79,246.06 ccw(c-647.33,244.1) -478.35,344.49 ; -346.46,255.91 ccw(c-387.34,385.39) -257.87,344.49 cw(c0.1,-0.19) 346.46,-255.91 ccw(c396.96,-398.1) 255.91,-344.49 cw(c-1.02,0.11) -346.46,255.91
Mechanical 16:
  circle w4: c389.55,-389.14 r72.67
  circle w4: c389.55,-389.14 r49.43
  circle w9.84: c0,0 r55.12
  circle w4: c-161.02,37.01 r31.1
  circle w4: c164.96,0 r31.1
  circle w4: c80.32,-144.49 r31.12
  circle w4: c-83.46,-111.42 r31.1
  rectangle: 324.91,-458.01 348.57,-320.27
  rectangle: -190.94,27.17 -131.89,46.85
  rectangle: 134.65,-9.84 194.88,9.84
  rectangle: 49.85,-154.85 110.08,-135.16
  rectangle: -113.39,-121.26 -53.54,-101.57
  lines w2.5: 57.09,172.24 54.13,160.43 67.91,160.43 ccw(c68.07,168.14) 74.8,164.37 75.79,167.32 ccw(c72.34,168.79) 73.82,172.24 58.07,172.24 ; -202.76,138.98 -192.91,175.98 -178.74,175.98 -164.57,155.51 -159.06,175.98 -145.28,175.98 -155.12,138.98 -169.29,138.98 -183.07,159.06 -188.98,138.98 -202.76,138.98 ; -142.72,138.78 -132.87,176.18 -88.58,176.18 -90.55,169.29 -121.06,169.29 -123.03,161.42 -99.41,161.42 -101.38,154.53 -125,154.53 -127.95,145.67 -96.46,145.67 -98.43,138.78 -142.72,138.78 ; -81.69,155.51 ccw(c-66.83,153.75) -66.93,138.78 -48.23,138.78 ccw(c-50.39,158.45) -31.5,152.56 -24.61,176.18 -39.37,176.18 -46.26,151.57 cw(c-53.28,154.12) -53.15,146.65 -62.01,146.65 cw(c-61.38,153.27) -67.91,154.53 -62.01,176.18 -75.79,176.18 -81.69,155.51 ; -14.76,169.29 1.97,169.29 -5.91,138.78 7.87,138.78 15.75,169.29 30.51,169.29 32.48,176.18 -12.8,176.18 -14.76,169.29 ; 34.45,138.78 44.29,176.18 81.69,176.18 cw(c82.72,169.41) 89.57,169.29 cw(c80.22,169.13) 83.66,160.43 72.83,155.51 86.61,138.78 68.9,138.78 53.15,156.5 48.23,138.78 34.45,138.78 ; 97.44,138.78 111.22,138.78 121.06,176.18 107.28,176.18 97.44,138.78 ; 124.02,138.78 133.86,176.18 147.64,176.18 143.7,160.43 164.37,176.18 181.1,176.18 155.51,156.5 171.26,138.78 158.46,138.78 142.72,156.5 137.8,138.78 124.02,138.78
  lines w9.84: -29.53,-17.72 cw(c0.92,0) -29.53,17.72 -15.35,9.06 ; -19.29,28.74 cw(c0.22,-2.62) 16.93,30.32 ; 0.39,-34.65 0.39,30.71 ; 14.96,-8.27 29.53,-16.93 ccw(c0.01,0.7) 30.32,16.93

## NC4MAH [mm]
pads (7):
  round 1.6 hole 1.6: 1(-3.81,13.89) 1(3.81,8.81)
  round 2.4 hole 1.6: 1(6.98,-0.08) 4(-6.98,-0.08)
  round 1.8 hole 1.2: 2(3.81,5) 3(-3.81,5) G(0,5)
Top Overlay:
  lines w0.203: -10.8,17.8 -10.8,19.95 cw(c-10.4,19.95) -10.4,20.35 10.4,20.35 cw(c10.4,19.95) 10.8,19.95 10.8,17.8 ; -12.4,-1.6 -12.4,17.7 12.4,17.7 12.4,-1.6 -12.4,-1.6

## NC4MAV [mil]
pads (5):
  round 94.48 hole 62.99: 1(-175,0) 2(-75,-150) 3(75,-125) 4(175,25)
  round 70.86 hole 47.24: G(0,-323.82)
Top Overlay:
  circle w4: c-388.94,389.5 r72.04
  circle w4: c-388.94,389.5 r49.17
  circle w4: c389.55,-389.14 r72.67
  circle w4: c389.55,-389.14 r49.43
  lines w4: -177.17,-492.13 -177.17,-537.4 -165.35,-549.21 -133.86,-549.21 -122.05,-537.4 -122.05,-492.13 ; -110.24,303.15 -102.36,279.53 100.39,279.53 110.24,305.12 ; -74.8,-312.99 cw(c0.02,2.67) 202.76,255.91 cw(c217.62,217.62) 255.91,202.76 cw(c-0.88,2.67) 61.02,-316.93 ; 122.05,-492.13 122.05,-537.4 133.86,-549.21 165.35,-549.21 177.17,-537.4 177.17,-492.13 ; -478.35,344.49 cw(c-388.57,389.17) -332.68,472.44 ccw(c-235.17,650.95) -163.39,460.63 cw(c-0.12,-0.36) 450.79,188.98 450.79,-246.06 ccw(c630.04,-245.71) 474.41,-334.65 cw(c388.3,-388.3) 435.04,-478.35 cw(c385.94,-382.8) 389.76,-490.16 -352.36,-490.16 -352.36,-340.55 cw(c32.7,19.97) -450.79,-190.94 -450.79,246.06 ccw(c-647.33,244.1) -478.35,344.49 ; -346.46,255.91 ccw(c-387.34,385.39) -257.87,344.49 cw(c0.1,-0.19) 346.46,-255.91 ccw(c396.96,-398.1) 255.91,-344.49 cw(c-1.02,0.11) -346.46,255.91
Mechanical 16:
  circle w9.84: c0,0 r55.12
  circle w4: c-164.61,2.19 r44.89
  circle w4: c-79.8,-142.76 r45.01
  circle w4: c83.78,-109.67 r45.01
  circle w4: c161.69,38.95 r45.01
  lines w2.5: 57.09,172.24 54.13,160.43 67.91,160.43 ccw(c68.07,168.14) 74.8,164.37 75.79,167.32 ccw(c72.34,168.79) 73.82,172.24 58.07,172.24 ; -202.76,138.98 -192.91,175.98 -178.74,175.98 -164.57,155.51 -159.06,175.98 -145.28,175.98 -155.12,138.98 -169.29,138.98 -183.07,159.06 -188.98,138.98 -202.76,138.98 ; -142.72,138.78 -132.87,176.18 -88.58,176.18 -90.55,169.29 -121.06,169.29 -123.03,161.42 -99.41,161.42 -101.38,154.53 -125,154.53 -127.95,145.67 -96.46,145.67 -98.43,138.78 -142.72,138.78 ; -81.69,155.51 ccw(c-66.83,153.75) -66.93,138.78 -48.23,138.78 ccw(c-50.39,158.44) -31.5,152.56 -24.61,176.18 -39.37,176.18 -46.26,151.57 cw(c-53.28,154.11) -53.15,146.65 -62.01,146.65 cw(c-61.38,153.27) -67.91,154.53 -62.01,176.18 -75.79,176.18 -81.69,155.51 ; -14.76,169.29 1.97,169.29 -5.91,138.78 7.87,138.78 15.75,169.29 30.51,169.29 32.48,176.18 -12.8,176.18 -14.76,169.29 ; 34.45,138.78 44.29,176.18 81.69,176.18 cw(c82.72,169.41) 89.57,169.29 cw(c80.22,169.13) 83.66,160.43 72.83,155.51 86.61,138.78 68.9,138.78 53.15,156.5 48.23,138.78 34.45,138.78 ; 97.44,138.78 111.22,138.78 121.06,176.18 107.28,176.18 97.44,138.78 ; 124.02,138.78 133.86,176.18 147.64,176.18 143.7,160.43 164.37,176.18 181.1,176.18 155.51,156.5 171.26,138.78 158.46,138.78 142.72,156.5 137.8,138.78 124.02,138.78
  lines w4: -74.8,-312.99 ccw(c2.37,4.33) 61.02,-316.93 ; -57.09,-314.96 -57.09,-275.59 17.72,-275.59 17.72,-320.87
  lines w9.84: -29.53,-17.72 cw(c0.92,0) -29.53,17.72 -15.35,9.06 ; -19.29,28.74 cw(c0.22,-2.62) 16.93,30.32 ; 0.39,-34.65 0.39,30.71 ; 14.96,-8.27 29.53,-16.93 ccw(c0.01,0.7) 30.32,16.93

## NC4MBH [mil]
pads (7):
  round 62.99 hole 62.99: 1(-150,350) 1(150,150)
  round 94.48 hole 62.99: 1(274.8,-200) 4(-274.8,-200)
  round 70.86 hole 47.24: 2(150,0) 3(-150,0) G(0,0)
Top Overlay:
  lines w8: -425.2,500.79 -425.2,585.43 cw(c-409.45,585.43) -409.45,601.18 409.45,601.18 cw(c409.45,585.43) 425.2,585.43 425.2,500.79 ; -488.19,-262.99 -488.19,496.85 488.19,496.85 488.19,-262.99 -488.19,-262.99

## NC4MBV [mil]
pads (5):
  round 94.48 hole 62.99: 1(-175,0) 2(-75,-150) 3(75,-125) 4(175,25)
  round 70.86 hole 47.24: G(0,-323.82)
Top Overlay:
  circle w4: c-388.94,389.5 r72.04
  circle w4: c-388.94,389.5 r49.17
  circle w4: c389.55,-389.14 r72.67
  circle w4: c389.55,-389.14 r49.43
  lines w4: -177.17,-492.13 -177.17,-537.4 -165.35,-549.21 -133.86,-549.21 -122.05,-537.4 -122.05,-492.13 ; -110.24,303.15 -102.36,279.53 100.39,279.53 110.24,305.12 ; -74.8,-312.99 cw(c0.02,2.67) 202.76,255.91 cw(c217.62,217.62) 255.91,202.76 cw(c-0.88,2.67) 61.02,-316.93 ; 122.05,-492.13 122.05,-537.4 133.86,-549.21 165.35,-549.21 177.17,-537.4 177.17,-492.13 ; -478.35,344.49 cw(c-388.57,389.17) -332.68,472.44 ccw(c-235.17,650.95) -163.39,460.63 cw(c-0.12,-0.36) 450.79,188.98 450.79,-246.06 ccw(c630.04,-245.71) 474.41,-334.65 cw(c388.3,-388.3) 435.04,-478.35 cw(c385.94,-382.8) 389.76,-490.16 -352.36,-490.16 -352.36,-340.55 cw(c32.7,19.97) -450.79,-190.94 -450.79,246.06 ccw(c-647.33,244.1) -478.35,344.49 ; -346.46,255.91 ccw(c-387.34,385.39) -257.87,344.49 cw(c0.1,-0.19) 346.46,-255.91 ccw(c396.95,-398.1) 255.91,-344.49 cw(c-1.02,0.11) -346.46,255.91
Mechanical 16:
  circle w9.84: c0,0 r55.12
  circle w4: c-164.61,2.19 r44.89
  circle w4: c-79.8,-142.76 r45.01
  circle w4: c83.78,-109.67 r45.01
  circle w4: c161.69,38.95 r45.01
  lines w2.5: 57.09,172.24 54.13,160.43 67.91,160.43 ccw(c68.07,168.14) 74.8,164.37 75.79,167.32 ccw(c72.34,168.79) 73.82,172.24 58.07,172.24 ; -202.76,138.98 -192.91,175.98 -178.74,175.98 -164.57,155.51 -159.06,175.98 -145.28,175.98 -155.12,138.98 -169.29,138.98 -183.07,159.06 -188.98,138.98 -202.76,138.98 ; -142.72,138.78 -132.87,176.18 -88.58,176.18 -90.55,169.29 -121.06,169.29 -123.03,161.42 -99.41,161.42 -101.38,154.53 -125,154.53 -127.95,145.67 -96.46,145.67 -98.43,138.78 -142.72,138.78 ; -81.69,155.51 ccw(c-66.83,153.75) -66.93,138.78 -48.23,138.78 ccw(c-50.39,158.44) -31.5,152.56 -24.61,176.18 -39.37,176.18 -46.26,151.57 cw(c-53.27,154.11) -53.15,146.65 -62.01,146.65 cw(c-61.38,153.27) -67.91,154.53 -62.01,176.18 -75.79,176.18 -81.69,155.51 ; -14.76,169.29 1.97,169.29 -5.91,138.78 7.87,138.78 15.75,169.29 30.51,169.29 32.48,176.18 -12.8,176.18 -14.76,169.29 ; 34.45,138.78 44.29,176.18 81.69,176.18 cw(c82.72,169.41) 89.57,169.29 cw(c80.22,169.13) 83.66,160.43 72.83,155.51 86.61,138.78 68.9,138.78 53.15,156.5 48.23,138.78 34.45,138.78 ; 97.44,138.78 111.22,138.78 121.06,176.18 107.28,176.18 97.44,138.78 ; 124.02,138.78 133.86,176.18 147.64,176.18 143.7,160.43 164.37,176.18 181.1,176.18 155.51,156.5 171.26,138.78 158.46,138.78 142.72,156.5 137.8,138.78 124.02,138.78
  lines w4: -74.8,-312.99 ccw(c2.37,4.35) 61.02,-316.93 ; -57.09,-314.96 -57.09,-275.59 17.72,-275.59 17.72,-320.87
  lines w9.84: -29.53,-17.72 cw(c0.92,0) -29.53,17.72 -15.35,9.06 ; -19.29,28.74 cw(c0.22,-2.62) 16.93,30.32 ; 0.39,-34.65 0.39,30.71 ; 14.96,-8.27 29.53,-16.93 ccw(c0.01,0.7) 30.32,16.93